# Altium footprint library DO.PcbLib: 18 footprints (part 1 of 2)
Each footprint in its own frame and in the unit in brackets; x right, y up, seen from the top. Pads: shape width x height; smd on the part's side, far side on the other; paste and mask are expansions set on the pad; w line width, h text height; cw(c..) or ccw(c..) is an arc to the next point about the centre after c.
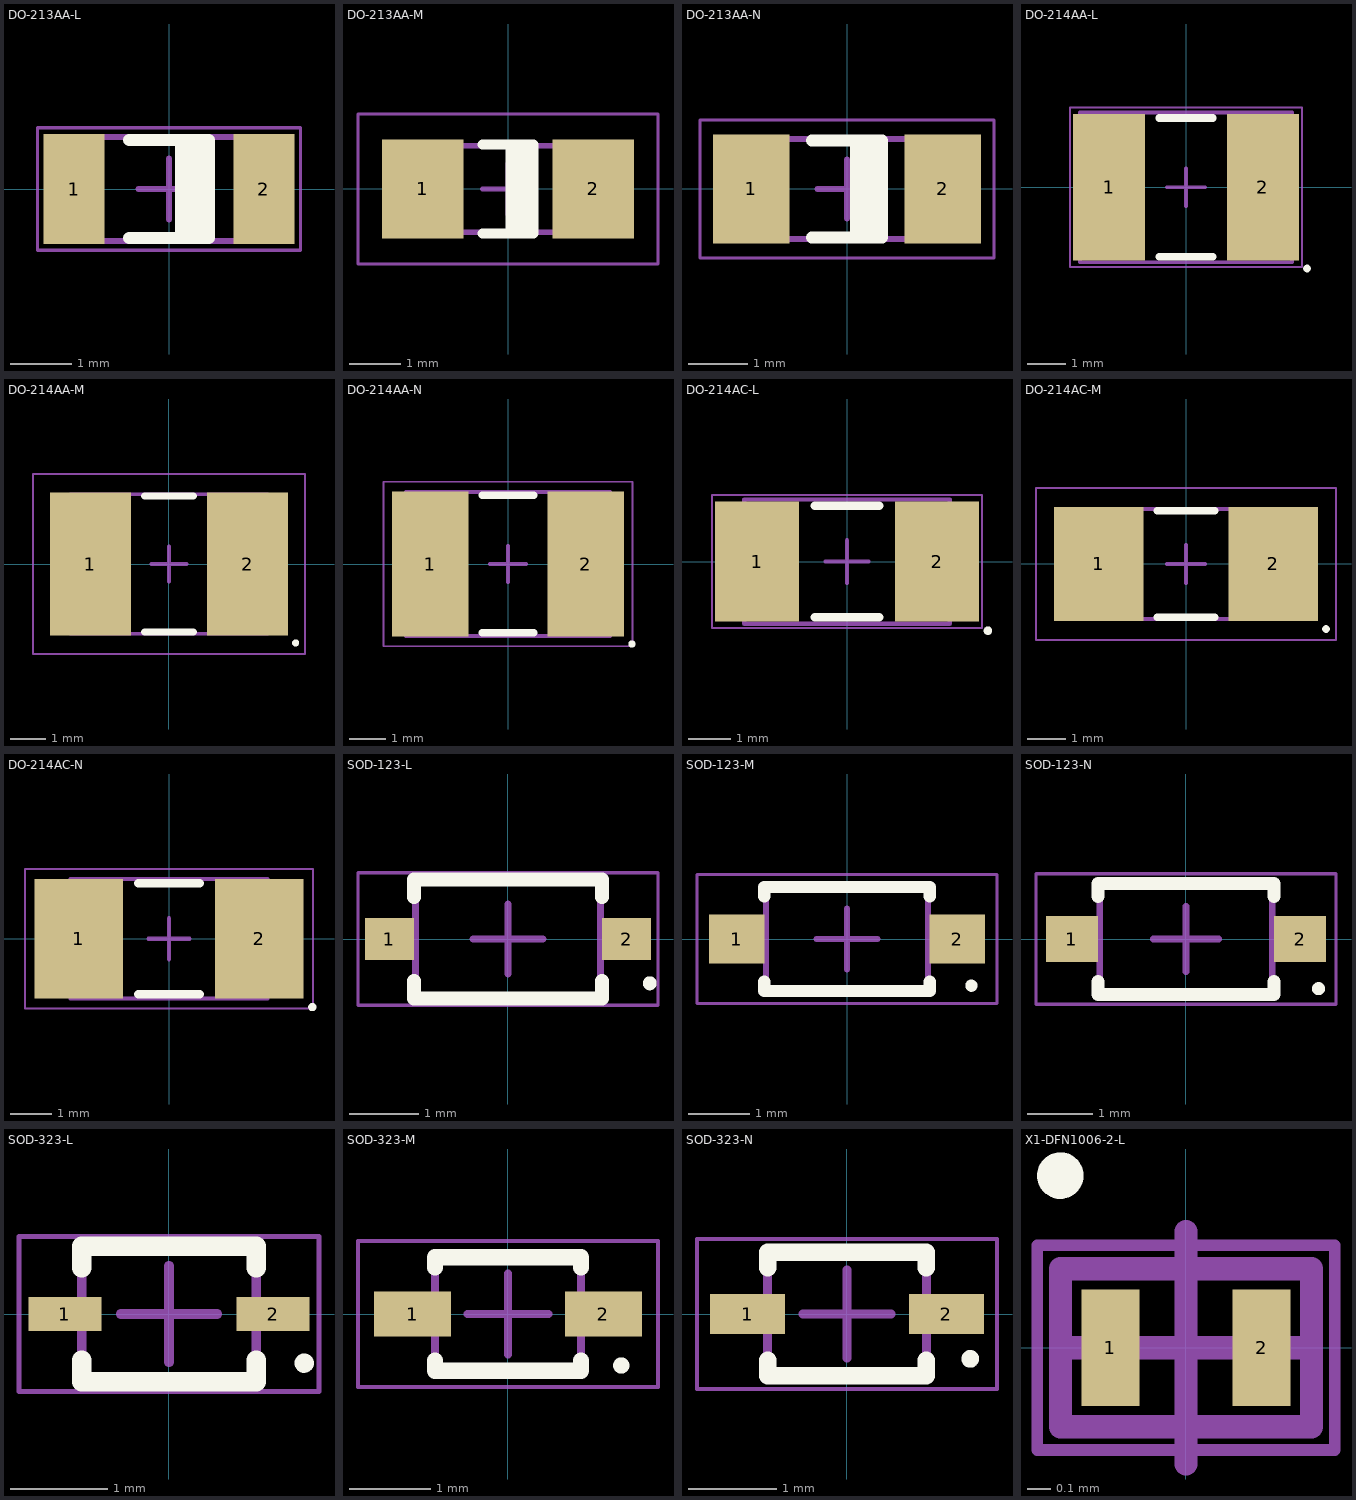
[diagram p0: the footprints below, top view; thin cyan lines are the x and y axes]

## DO-213AA-L [mm] "MELF Diode, 2-Leads, Body 3,50x1,65mm, IPC High Density"
height 1.7
pads (2):
  rect 1x1.8 smd: 1(-1.55,0) 2(1.55,0)
Top Overlay:
  rectangle: 0.1,-0.8 0.65,0.8
  lines w0.2: -0.65,-0.8 0.65,-0.8 0.65,0.8 -0.65,0.8
Mechanical 13:
  lines w0.1: -1.85,-0.85 -1.85,0.85 1.85,0.85 1.85,-0.85 -1.85,-0.85
Mechanical 15:
  lines w0.05: -2.15,-1 -2.15,1 2.15,1 2.15,-1 -2.15,-1
  lines w0.1: -0.5,0 0.5,0 ; 0,-0.5 0,0.5
3D body "DO-213AA-L.step": height 1.65, standoff 0.01, extent -1.75,-0.823 1.75,0.823

## DO-213AA-M [mm] "MELF Diode, 2-Leads, Body 3,50x1,65mm, IPC Low Density"
height 1.7
pads (2):
  rect 1.6x1.95 smd: 1(-1.675,0) 2(1.675,0)
Top Overlay:
  rectangle: -0.05,-0.875 0.5,0.875
  lines w0.2: -0.5,-0.875 0.5,-0.875 0.5,0.875 -0.5,0.875
Mechanical 13:
  lines w0.1: -1.85,-0.85 1.85,-0.85 1.85,0.85 -1.85,0.85 -1.85,-0.85
Mechanical 15:
  lines w0.05: -2.95,-1.475 2.95,-1.475 2.95,1.475 -2.95,1.475 -2.95,-1.475
  lines w0.1: -0.5,0 0.5,0 ; 0,-0.5 0,0.5
3D body "DO-213AA-M.step": height 1.65, standoff 0.01, extent -1.75,-0.823 1.75,0.823

## DO-213AA-N [mm] "MELF Diode, 2-Leads, Body 3,50x1,65mm, IPC Medium Density"
height 1.7
pads (2):
  rect 1.3x1.85 smd: 1(-1.625,0) 2(1.625,0)
Top Overlay:
  rectangle: 0.05,-0.825 0.6,0.825
  lines w0.2: -0.6,-0.825 0.6,-0.825 0.6,0.825 -0.6,0.825
Mechanical 13:
  lines w0.1: -1.85,-0.85 -1.85,0.85 1.85,0.85 1.85,-0.85 -1.85,-0.85
Mechanical 15:
  lines w0.05: -2.5,-1.175 -2.5,1.175 2.5,1.175 2.5,-1.175 -2.5,-1.175
  lines w0.1: -0.5,0 0.5,0 ; 0,-0.5 0,0.5
3D body "DO-213AA-N.step": height 1.65, standoff 0.01, extent -1.75,-0.823 1.75,0.823

## DO-214AA-L [mm] "Chip Diode, 2-Leads, Body 5,40x3,62mm, IPC High Density"
height 2.13
pads (2):
  rect 1.9x3.85 smd: 1(-2.025,0) 2(2.025,0)
Top Overlay:
  circle w0.1: c3.187,-2.137 r0.05
  lines w0.2: -0.7,-1.825 0.7,-1.825 ; -0.7,1.825 0.7,1.825
Mechanical 13:
  lines w0.1: -2.795,-1.97 2.795,-1.97 2.795,1.97 -2.795,1.97 -2.795,-1.97
Mechanical 15:
  lines w0.05: -3.05,-2.1 3.05,-2.1 3.05,2.1 -3.05,2.1 -3.05,-2.1
  lines w0.1: -0.5,0 0.5,0 ; 0,-0.5 0,0.5
3D body "DO-214AA-L.step": height 2.13, standoff 0, extent -2.795,-1.97 2.795,1.97

## DO-214AA-M [mm] "Chip Diode, 2-Leads, Body 5,40x3,62mm, IPC Low Density"
height 2.13
pads (2):
  rect 2.3x4.05 smd: 1(-2.225,0) 2(2.225,0)
Top Overlay:
  circle w0.1: c3.587,-2.237 r0.05
  lines w0.2: -0.7,-1.925 0.7,-1.925 ; -0.7,1.925 0.7,1.925
Mechanical 13:
  lines w0.1: -2.795,-1.97 -2.795,1.97 2.795,1.97 2.795,-1.97 -2.795,-1.97
Mechanical 15:
  lines w0.05: -3.85,-2.55 -3.85,2.55 3.85,2.55 3.85,-2.55 -3.85,-2.55
  lines w0.1: -0.5,0 0.5,0 ; 0,-0.5 0,0.5
3D body "DO-214AA-M.step": height 2.13, standoff 0, extent -2.795,-1.97 2.795,1.97

## DO-214AA-N [mm] "Chip Diode, 2-Leads, Body 5,40x3,62mm, IPC Medium Density"
height 2.13
pads (2):
  rect 2.1x3.95 smd: 1(-2.125,0) 2(2.125,0)
Top Overlay:
  circle w0.1: c3.387,-2.187 r0.05
  lines w0.2: -0.7,-1.875 0.7,-1.875 ; -0.7,1.875 0.7,1.875
Mechanical 13:
  lines w0.1: -2.795,-1.97 2.795,-1.97 2.795,1.97 -2.795,1.97 -2.795,-1.97
Mechanical 15:
  lines w0.05: -3.4,-2.25 3.4,-2.25 3.4,2.25 -3.4,2.25 -3.4,-2.25
  lines w0.1: -0.5,0 0.5,0 ; 0,-0.5 0,0.5
3D body "DO-214AA-N.step": height 2.13, standoff 0, extent -2.795,-1.97 2.795,1.97

## DO-214AC-L [mm] "Chip Diode, 2-Leads, Body 5.04x2.70mm, IPC High Density"
height 2
pads (2):
  rect 1.95x2.8 smd: 1(-2.1,0) 2(2.1,0)
Top Overlay:
  circle w0.1: c3.287,-1.612 r0.05
  lines w0.2: -0.75,-1.3 0.75,-1.3 ; -0.75,1.3 0.75,1.3
Mechanical 13:
  lines w0.1: -2.4,-1.45 2.4,-1.45 2.4,1.45 -2.4,1.45 -2.4,-1.45
Mechanical 15:
  lines w0.05: -3.15,-1.55 3.15,-1.55 3.15,1.55 -3.15,1.55 -3.15,-1.55
  lines w0.1: -0.5,0 0.5,0 ; 0,-0.5 0,0.5
3D body "DO-214AC-L.step": height 2, standoff 0, extent -2.4,-1.45 2.4,1.45

## DO-214AC-M [mm] "Chip Diode, 2-Leads, Body 5.04x2.70mm, IPC Low Density"
height 2
pads (2):
  rect 2.35x3 smd: 1(-2.3,0) 2(2.3,0)
Top Overlay:
  circle w0.1: c3.687,-1.712 r0.05
  lines w0.2: -0.75,-1.4 0.75,-1.4 ; -0.75,1.4 0.75,1.4
Mechanical 13:
  lines w0.1: -2.4,-1.45 -2.4,1.45 2.4,1.45 2.4,-1.45 -2.4,-1.45
Mechanical 15:
  lines w0.05: -3.95,-2 -3.95,2 3.95,2 3.95,-2 -3.95,-2
  lines w0.1: -0.5,0 0.5,0 ; 0,-0.5 0,0.5
3D body "DO214AC-M.step": height 2, standoff 0, extent -2.4,-1.45 2.4,1.45

## DO-214AC-N [mm] "Chip Diode, 2-Leads, Body 5.04x2.70mm, IPC Medium Density"
height 2
pads (2):
  rect 2.15x2.9 smd: 1(-2.2,0) 2(2.2,0)
Top Overlay:
  circle w0.1: c3.487,-1.662 r0.05
  lines w0.2: -0.75,-1.35 0.75,-1.35 ; -0.75,1.35 0.75,1.35
Mechanical 13:
  lines w0.1: -2.4,-1.45 -2.4,1.45 2.4,1.45 2.4,-1.45 -2.4,-1.45
Mechanical 15:
  lines w0.05: -3.5,-1.7 -3.5,1.7 3.5,1.7 3.5,-1.7 -3.5,-1.7
  lines w0.1: -0.5,0 0.5,0 ; 0,-0.5 0,0.5
3D body "DO-214AC-N.step": height 2, standoff 0, extent -2.4,-1.45 2.4,1.45

## SOD-123-L [mm] "SODFL, 2-Leads, Body 1,55x3,70mm, IPC High Density"
height 1.35
pads (2):
  rect 0.7x0.6 smd: 1(-1.7,0) 2(1.7,0)
Top Overlay:
  circle w0.1: c2.032,-0.635 r0.05
  lines w0.2: -1.35,-0.6 -1.35,-0.85 1.35,-0.85 1.35,-0.6 ; -1.35,0.6 -1.35,0.85 1.35,0.85 1.35,0.6
Mechanical 13:
  lines w0.1: -1.325,-0.85 1.325,-0.85 1.325,0.85 -1.325,0.85 -1.325,-0.85
Mechanical 15:
  lines w0.05: -2.15,-0.95 2.15,-0.95 2.15,0.95 -2.15,0.95 -2.15,-0.95
  lines w0.1: -0.5,0 0.5,0 ; 0,-0.5 0,0.5
3D body "SOD-123-L.step": height 1.35, standoff 0, extent -1.85,-0.85 1.85,0.85

## SOD-123-M [mm] "SODFL, 2-Leads, Body 1,55x3,70mm, IPC Low Density"
height 1.35
pads (2):
  rect 0.9x0.8 smd: 1(-1.8,0) 2(1.8,0)
Top Overlay:
  circle w0.1: c2.032,-0.762 r0.05
  lines w0.2: -1.35,-0.7 -1.35,-0.85 1.35,-0.85 1.35,-0.7 ; -1.35,0.7 -1.35,0.85 1.35,0.85 1.35,0.7
Mechanical 13:
  lines w0.1: -1.325,-0.85 -1.325,0.85 1.325,0.85 1.325,-0.85 -1.325,-0.85
Mechanical 15:
  lines w0.05: -2.45,-1.05 -2.45,1.05 2.45,1.05 2.45,-1.05 -2.45,-1.05
  lines w0.1: -0.5,0 0.5,0 ; 0,-0.5 0,0.5
3D body "SOD-123-M.step": height 1.35, standoff 0, extent -1.85,-0.85 1.85,0.85

## SOD-123-N [mm] "SODFL, 2-Leads, Body 1,55x3,70mm, IPC Medium Density"
height 1.35
pads (2):
  rect 0.8x0.7 smd: 1(-1.75,0) 2(1.75,0)
Top Overlay:
  circle w0.1: c2.032,-0.762 r0.05
  lines w0.2: -1.35,-0.65 -1.35,-0.85 1.35,-0.85 1.35,-0.65 ; -1.35,0.65 -1.35,0.85 1.35,0.85 1.35,0.65
Mechanical 13:
  lines w0.1: -1.325,-0.85 -1.325,0.85 1.325,0.85 1.325,-0.85 -1.325,-0.85
Mechanical 15:
  lines w0.05: -2.3,-1 -2.3,1 2.3,1 2.3,-1 -2.3,-1
  lines w0.1: -0.5,0 0.5,0 ; 0,-0.5 0,0.5
3D body "SOD-123-N.step": height 1.35, standoff 0, extent -1.85,-0.85 1.85,0.85

## SOD-323-L [mm] "SODFL, 2-Leads, Body 1,25x2,50mm, IPC High Density"
height 1.1
pads (2):
  rect 0.75x0.35 smd: 1(-1.075,0) 2(1.075,0)
Top Overlay:
  circle w0.1: c1.397,-0.508 r0.05
  lines w0.2: -0.9,-0.475 -0.9,-0.7 0.9,-0.7 0.9,-0.475 ; -0.9,0.475 -0.9,0.7 0.9,0.7 0.9,0.475
Mechanical 13:
  lines w0.1: -0.9,-0.675 0.9,-0.675 0.9,0.675 -0.9,0.675 -0.9,-0.675
Mechanical 15:
  lines w0.05: -1.55,-0.8 1.55,-0.8 1.55,0.8 -1.55,0.8 -1.55,-0.8
  lines w0.1: -0.5,0 0.5,0 ; 0,-0.5 0,0.5
3D body "SOD-323-L.step": height 1.1, standoff 0, extent -1.25,-0.675 1.25,0.675

## SOD-323-M [mm] "SODFL, 2-Leads, Body 1,25x2,50mm, IPC Low Density"
height 1.1
pads (2):
  rect 0.95x0.55 smd: 1(-1.175,0) 2(1.175,0)
Top Overlay:
  circle w0.1: c1.397,-0.635 r0.05
  lines w0.2: -0.9,-0.575 -0.9,-0.7 0.9,-0.7 0.9,-0.575 ; -0.9,0.575 -0.9,0.7 0.9,0.7 0.9,0.575
Mechanical 13:
  lines w0.1: -0.9,-0.675 0.9,-0.675 0.9,0.675 -0.9,0.675 -0.9,-0.675
Mechanical 15:
  lines w0.05: -1.85,-0.9 1.85,-0.9 1.85,0.9 -1.85,0.9 -1.85,-0.9
  lines w0.1: -0.5,0 0.5,0 ; 0,-0.5 0,0.5
3D body "SOD-323-M.step": height 1.1, standoff 0, extent -1.25,-0.675 1.25,0.675

## SOD-323-N [mm] "SODFL, 2-Leads, Body 1,25x2,50mm, IPC Medium Density"
height 1.1
pads (2):
  rect 0.85x0.45 smd: 1(-1.125,0) 2(1.125,0)
Top Overlay:
  circle w0.1: c1.397,-0.508 r0.05
  lines w0.2: -0.9,-0.525 -0.9,-0.7 0.9,-0.7 0.9,-0.525 ; -0.9,0.525 -0.9,0.7 0.9,0.7 0.9,0.525
Mechanical 13:
  lines w0.1: -0.9,-0.675 -0.9,0.675 0.9,0.675 0.9,-0.675 -0.9,-0.675
Mechanical 15:
  lines w0.05: -1.7,-0.85 -1.7,0.85 1.7,0.85 1.7,-0.85 -1.7,-0.85
  lines w0.1: -0.5,0 0.5,0 ; 0,-0.5 0,0.5
3D body "SOD-323-N.step": height 1.1, standoff 0, extent -1.25,-0.675 1.25,0.675

## X1-DFN1006-2-L [mm] "DFN, 2-Leads, Body 0.61x1.01mm, Pitch 0.65mm, IPC High Density"
height 0.53
pads (2):
  rect 0.25x0.5 smd: 1(-0.325,0) 2(0.325,0)
Top Overlay:
  circle w0.1: c-0.54,0.74 r0.05
Mechanical 13:
  lines w0.1: -0.54,-0.34 -0.54,0.34 0.54,0.34 0.54,-0.34 -0.54,-0.34
Mechanical 15:
  lines w0.05: -0.64,-0.44 -0.64,0.44 0.64,0.44 0.64,-0.44 -0.64,-0.44
  lines w0.1: -0.5,0 0.5,0 ; 0,-0.5 0,0.5
3D body "DFN-2-L.step": height 0.53, standoff 0, extent -0.537,-0.337 0.537,0.337